# Altium footprint library WR-TBL_Rising Cage Clamp_10.16mm.PcbLib: 81 footprints (part 5 of 6)
Each footprint in its own frame and in the unit in brackets; x right, y up, seen from the top. Pads: shape width x height; smd on the part's side, far side on the other; paste and mask are expansions set on the pad; w line width, h text height; cw(c..) or ccw(c..) is an arc to the next point about the centre after c.
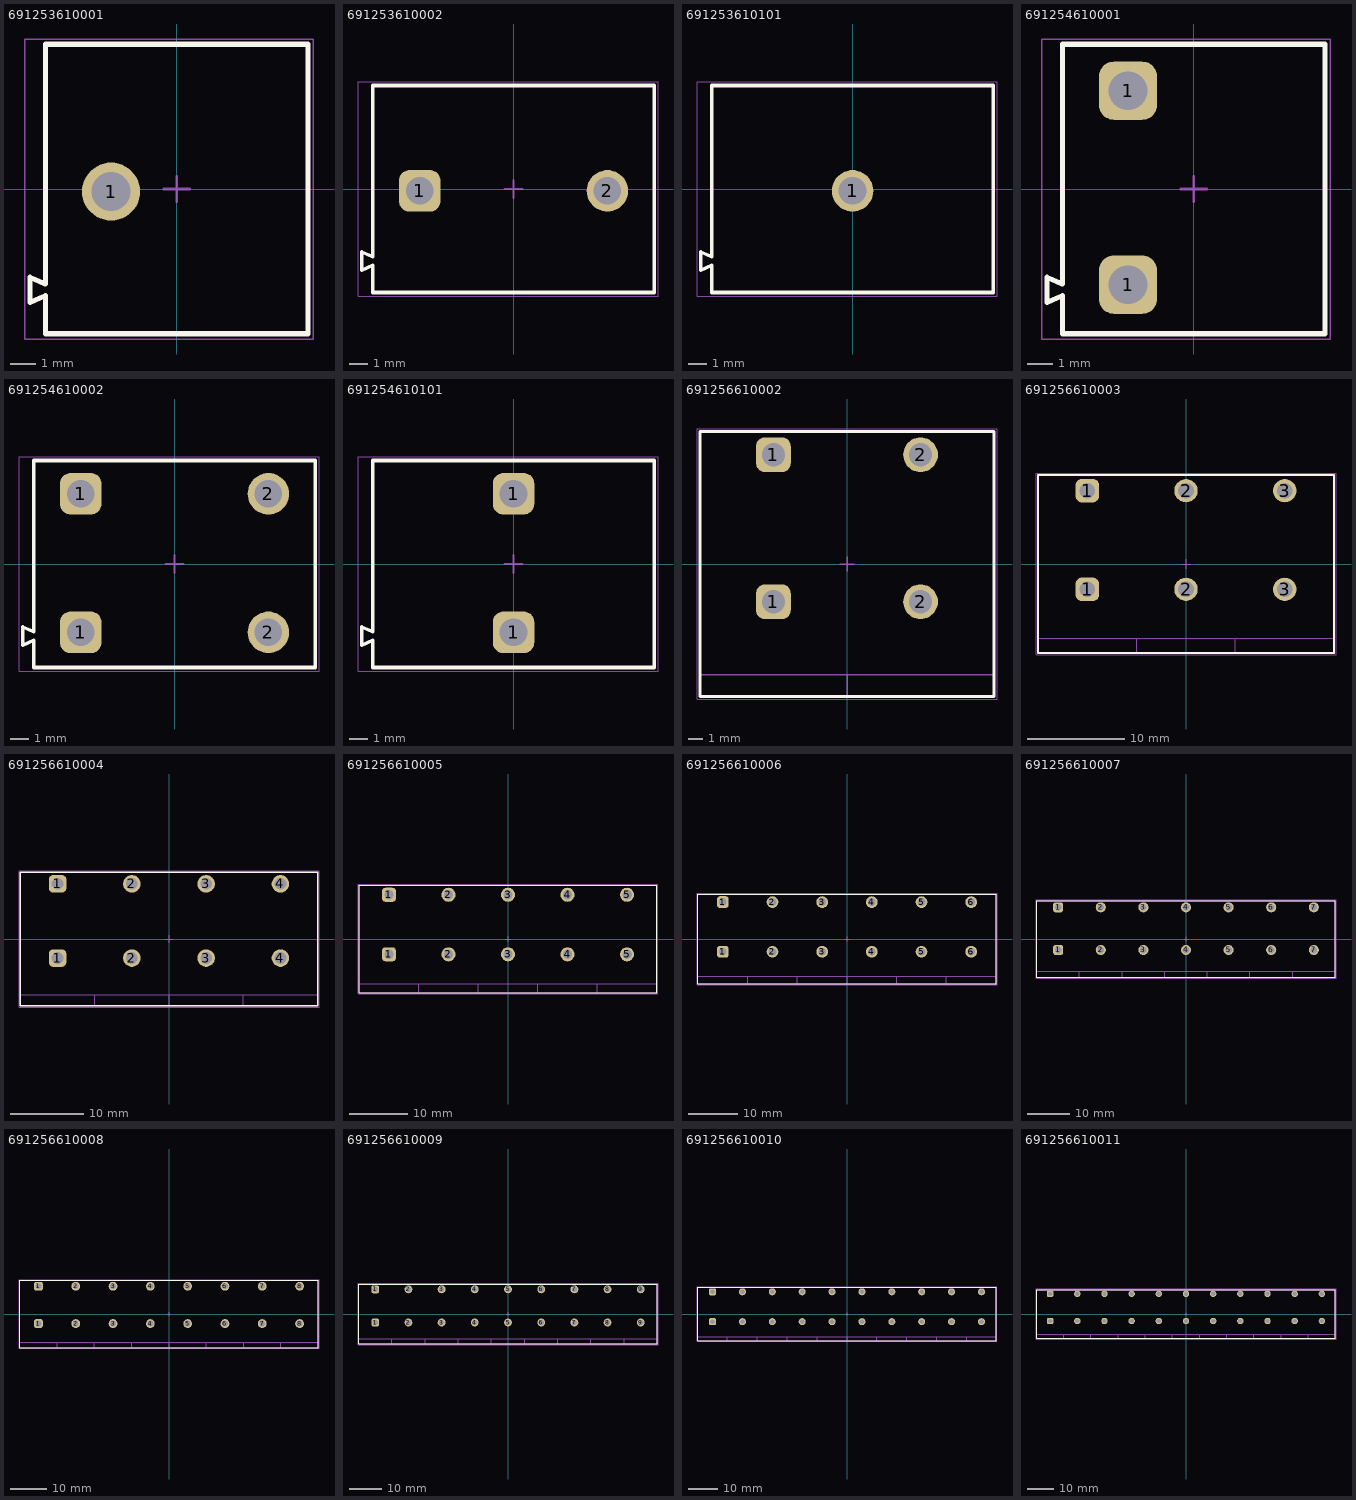
[diagram p4: the footprints below, top view; thin cyan lines are the x and y axes]

## 691253610001 [mm] "Serie 2536 - 10.16 mm _ 1 pins"
height 18
pads (1):
  round 2.25 hole 1.5: 1(-2.54,-0.1)
Top Overlay:
  lines w0.2: -5.079,-4.131 -5.68,-4.39 -5.68,-3.41 -5.079,-3.669 -5.079,5.599 5.08,5.6 5.08,-5.6 -5.08,-5.6 -5.08,-4.13
Top Assembly:
  lines w0.1: -5.079,-4.131 -5.68,-4.39 -5.68,-3.41 -5.079,-3.669 -5.079,5.599 5.08,5.6 5.08,-5.6 -5.08,-5.6 -5.08,-4.13
Top Designator:
  text ".Designator" at -3.647,-0.357 h1
Top 3D Body:
  lines w0.1: -5.079,-4.131 -5.68,-4.39 -5.68,-3.41 -5.079,-3.669 -5.079,5.599 5.08,5.6 5.08,-5.6 -5.08,-5.6 -5.08,-4.13
Top Courtyard:
  lines w0.05: -5.88,-5.8 -5.88,5.8 5.28,5.8 5.28,-5.8 -5.88,-5.8
Top Component Center:
  lines w0.1: -0.5,0 0.5,0 ; 0,-0.5 0,0.5
3D body "691253610001.stp": height 18.1, standoff -3.9, extent -5.66,-5.6 5.1,5.6

## 691253610002 [mm] "Serie 2536 - 10.16 mm _ 2 pins"
height 18
pads (2):
  rrect50% 2.25x2.25 hole 1.5: 1(-5.08,-0.1)
  round 2.25 hole 1.5: 2(5.08,-0.1)
Top Overlay:
  lines w0.2: -7.619,-4.131 -8.22,-4.39 -8.22,-3.41 -7.619,-3.669 -7.619,5.599 7.62,5.6 7.62,-5.6 -7.62,-5.6 -7.62,-4.13
Top Assembly:
  lines w0.1: -7.619,-4.131 -8.22,-4.39 -8.22,-3.41 -7.619,-3.669 -7.619,5.599 7.62,5.6 7.62,-5.6 -7.62,-5.6 -7.62,-4.13
Top Designator:
  text ".Designator" at -3.647,-0.357 h1
Top 3D Body:
  lines w0.1: -7.619,-4.131 -8.22,-4.39 -8.22,-3.41 -7.619,-3.669 -7.619,5.599 7.62,5.6 7.62,-5.6 -7.62,-5.6 -7.62,-4.13
Top Courtyard:
  lines w0.05: -8.42,-5.8 -8.42,5.8 7.82,5.8 7.82,-5.8 -8.42,-5.8
Top Component Center:
  lines w0.1: -0.5,0 0.5,0 ; 0,-0.5 0,0.5
3D body "691253610002.stp": height 18.1, standoff -3.9, extent -8.2,-5.6 7.64,5.6

## 691253610101 [mm] "Serie 2536 - 10.16 mm _ 1 pin"
height 18
pads (1):
  round 2.25 hole 1.5: 1(0,-0.1)
Top Overlay:
  lines w0.2: -7.619,-4.131 -8.22,-4.39 -8.22,-3.41 -7.619,-3.669 -7.619,5.599 7.62,5.6 7.62,-5.6 -7.62,-5.6 -7.62,-4.13
Top Assembly:
  lines w0.1: -7.619,-4.131 -8.22,-4.39 -8.22,-3.41 -7.619,-3.669 -7.619,5.599 7.62,5.6 7.62,-5.6 -7.62,-5.6 -7.62,-4.13
Top Designator:
  text ".Designator" at -3.647,-0.357 h1
Top 3D Body:
  lines w0.1: -7.619,-4.131 -8.22,-4.39 -8.22,-3.41 -7.619,-3.669 -7.619,5.599 7.62,5.6 7.62,-5.6 -7.62,-5.6 -7.62,-4.13
Top Courtyard:
  lines w0.05: -8.42,-5.8 7.82,-5.8 7.82,5.8 -8.42,5.8 -8.42,-5.8
Top Component Center:
  lines w0.1: -0.5,0 0.5,0 ; 0,-0.5 0,0.5
3D body "691253610101.stp": height 18.1, standoff -3.9, extent -8.22,-5.6 7.62,5.6

## 691254610001 [mm] "Serie 2546-10.16mm Horizontal Cable Entry with Rising Cage Clamp, 1 pin"
height 18
pads (2):
  rrect50% 2.25x2.25 hole 1.5: 1(-2.54,-3.7) 1(-2.54,3.8)
Top Overlay:
  lines w0.2: -5.081,-4.127 -5.68,-4.39 -5.68,-3.41 -5.081,-3.673 -5.081,5.599 ; -5.08,-4.13 -5.08,-5.6 5.08,-5.6 5.08,5.6 -5.08,5.6
Top Assembly:
  lines w0.1: -5.081,-4.127 -5.68,-4.39 -5.68,-3.41 -5.081,-3.673 -5.081,5.599 ; -5.08,-4.13 -5.08,-5.6 5.08,-5.6 5.08,5.6 -5.08,5.6
Top Designator:
  text ".Designator" at -3.647,-0.357 h1
Top 3D Body:
  lines w0.1: -5.081,-4.127 -5.68,-4.39 -5.68,-3.41 -5.081,-3.673 -5.081,5.599 ; -5.08,-4.13 -5.08,-5.6 5.08,-5.6 5.08,5.6 -5.08,5.6
Top Courtyard:
  lines w0.05: -5.88,-5.8 -5.88,5.8 5.28,5.8 5.28,-5.8 -5.88,-5.8
Top Component Center:
  lines w0.1: -0.5,0 0.5,0 ; 0,-0.5 0,0.5
3D body "691254610001.stp": height 18.1, standoff -3.4, extent -5.68,-5.6 5.08,5.6

## 691254610002 [mm] "Serie 2546-10.16mm Horizontal Cable Entry with Rising Cage Clamp, 2 pins"
height 18
pads (4):
  rrect50% 2.25x2.25 hole 1.5: 1(-5.08,-3.7) 1(-5.08,3.8)
  round 2.25 hole 1.5: 2(5.08,-3.7) 2(5.08,3.8)
Top Overlay:
  lines w0.2: -7.621,-4.127 -8.22,-4.39 -8.22,-3.41 -7.621,-3.673 -7.621,5.599 ; -7.62,-4.13 -7.62,-5.6 7.62,-5.6 7.62,5.6 -7.62,5.6
Top Assembly:
  lines w0.1: -7.621,-4.127 -8.22,-4.39 -8.22,-3.41 -7.621,-3.673 -7.621,5.599 ; -7.62,-4.13 -7.62,-5.6 7.62,-5.6 7.62,5.6 -7.62,5.6
Top Designator:
  text ".Designator" at -3.647,-0.357 h1
Top 3D Body:
  lines w0.1: -7.621,-4.127 -8.22,-4.39 -8.22,-3.41 -7.621,-3.673 -7.621,5.599 ; -7.62,-4.13 -7.62,-5.6 7.62,-5.6 7.62,5.6 -7.62,5.6
Top Courtyard:
  lines w0.05: -8.42,-5.8 7.82,-5.8 7.82,5.8 -8.42,5.8 -8.42,-5.8
Top Component Center:
  lines w0.1: -0.5,0 0.5,0 ; 0,-0.5 0,0.5
3D body "691254610002.stp": height 18.1, standoff -3.4, extent -8.22,-5.6 7.62,5.6

## 691254610101 [mm] "Serie 2546-10.16mm Horizontal Cable Entry with Rising Cage Clamp, 1 pin"
height 18
pads (2):
  rrect50% 2.25x2.25 hole 1.5: 1(0,-3.7) 1(0,3.8)
Top Overlay:
  lines w0.2: -7.621,-4.127 -8.22,-4.39 -8.22,-3.41 -7.621,-3.673 -7.621,5.599 ; -7.62,-4.13 -7.62,-5.6 7.62,-5.6 7.62,5.6 -7.62,5.6
Top Assembly:
  lines w0.1: -7.621,-4.127 -8.22,-4.39 -8.22,-3.41 -7.621,-3.673 -7.621,5.599 ; -7.62,-4.13 -7.62,-5.6 7.62,-5.6 7.62,5.6 -7.62,5.6
Top Designator:
  text ".Designator" at -3.647,-0.357 h1
Top 3D Body:
  lines w0.1: -7.621,-4.127 -8.22,-4.39 -8.22,-3.41 -7.621,-3.673 -7.621,5.599 ; -7.62,-4.13 -7.62,-5.6 7.62,-5.6 7.62,5.6 -7.62,5.6
Top Courtyard:
  lines w0.05: -8.42,-5.8 -8.42,5.8 7.82,5.8 7.82,-5.8 -8.42,-5.8
Top Component Center:
  lines w0.1: -0.5,0 0.5,0 ; 0,-0.5 0,0.5
3D body "691254610101.stp": height 18.1, standoff -3.4, extent -8.22,-5.6 7.62,5.6

## 691256610002 [mm] "10.16mm Horizontal Cable Entry with Rising Cage Clamp, 02p"
height 29.3
pads (4):
  rrect50% 2.4x2.4 hole 1.6: 1(-5.08,-2.61) 1(-5.08,7.55)
  round 2.4 hole 1.6: 2(5.08,-2.61) 2(5.08,7.55)
Top Overlay:
  lines w0.2: -10.16,-9.15 -10.16,9.15 10.16,9.15 10.16,-9.15 -10.16,-9.15
Top Assembly:
  lines w0.1: -10.16,-7.65 10.16,-7.65 ; 0,-9.15 0,-7.65 ; -10.16,-9.15 10.16,-9.15 10.16,9.15 -10.16,9.15 -10.16,-9.15
Top Designator:
  text ".Designator" at -3.647,-0.357 h1
Top 3D Body:
  lines w0.1: -10.16,-7.65 10.16,-7.65 ; 0,-9.15 0,-7.65 ; -10.16,-9.15 -10.16,9.15 10.16,9.15 10.16,-9.15 -10.16,-9.15
Top Courtyard:
  lines w0.05: -10.36,-9.35 -10.36,9.35 10.36,9.35 10.36,-9.35 -10.36,-9.35
Top Component Center:
  lines w0.1: -0.5,0 0.5,0 ; 0,-0.5 0,0.5
3D body "691256610002.stp": height 29.33, standoff -4.97, extent -10.16,-9.15 10.16,9.15

## 691256610003 [mm] "10.16mm Horizontal Cable Entry with Rising Cage Clamp, 03p"
height 29.3
pads (6):
  rrect50% 2.4x2.4 hole 1.6: 1(-10.16,-2.61) 1(-10.16,7.55)
  round 2.4 hole 1.6: 2(0,-2.61) 2(0,7.55) 3(10.16,-2.61) 3(10.16,7.55)
Top Overlay:
  lines w0.2: -15.24,-9.15 -15.24,9.15 15.24,9.15 15.24,-9.15 -15.24,-9.15
Top Assembly:
  lines w0.1: -15.24,-7.65 15.24,-7.65 ; -5.08,-9.15 -5.08,-7.65 ; 5.08,-9.15 5.08,-7.65 ; -15.24,-9.15 15.24,-9.15 15.24,9.15 -15.24,9.15 -15.24,-9.15
Top Designator:
  text ".Designator" at -3.647,-0.357 h1
Top 3D Body:
  lines w0.1: -15.24,-7.65 15.24,-7.65 ; -5.08,-9.15 -5.08,-7.65 ; 5.08,-9.15 5.08,-7.65 ; -15.24,-9.15 -15.24,9.15 15.24,9.15 15.24,-9.15 -15.24,-9.15
Top Courtyard:
  lines w0.05: -15.44,-9.35 -15.44,9.35 15.44,9.35 15.44,-9.35 -15.44,-9.35
Top Component Center:
  lines w0.1: -0.5,0 0.5,0 ; 0,-0.5 0,0.5
3D body "691256610003.stp": height 29.33, standoff -4.97, extent -15.24,-9.15 15.24,9.15

## 691256610004 [mm] "10.16mm Horizontal Cable Entry with Rising Cage Clamp, 04p"
height 29.3
pads (8):
  rrect50% 2.4x2.4 hole 1.6: 1(-15.24,-2.61) 1(-15.24,7.55)
  round 2.4 hole 1.6: 2(-5.08,-2.61) 2(-5.08,7.55) 3(5.08,-2.61) 3(5.08,7.55) 4(15.24,-2.61) 4(15.24,7.55)
Top Overlay:
  lines w0.2: -20.32,-9.15 20.32,-9.15 20.32,9.15 -20.32,9.15 -20.32,-9.15
Top Assembly:
  lines w0.1: -20.32,-7.65 20.32,-7.65 ; -10.16,-9.15 -10.16,-7.65 ; 0,-9.15 0,-7.65 ; 10.16,-9.15 10.16,-7.65 ; -20.32,-9.15 -20.32,9.15 20.32,9.15 20.32,-9.15 -20.32,-9.15
Top Designator:
  text ".Designator" at -3.647,-0.357 h1
Top 3D Body:
  lines w0.1: -20.32,-7.65 20.32,-7.65 ; -10.16,-9.15 -10.16,-7.65 ; 0,-9.15 0,-7.65 ; 10.16,-9.15 10.16,-7.65 ; -20.32,-9.15 20.32,-9.15 20.32,9.15 -20.32,9.15 -20.32,-9.15
Top Courtyard:
  lines w0.05: -20.52,-9.35 20.52,-9.35 20.52,9.35 -20.52,9.35 -20.52,-9.35
Top Component Center:
  lines w0.1: -0.5,0 0.5,0 ; 0,-0.5 0,0.5
3D body "691256610004.stp": height 29.33, standoff -4.97, extent -20.32,-9.15 20.32,9.15

## 691256610005 [mm] "10.16mm Horizontal Cable Entry with Rising Cage Clamp, 05p"
height 29.3
pads (10):
  rrect50% 2.4x2.4 hole 1.6: 1(-20.32,-2.61) 1(-20.32,7.55)
  round 2.4 hole 1.6: 2(-10.16,-2.61) 2(-10.16,7.55) 3(0,-2.61) 3(0,7.55) 4(10.16,-2.61) 4(10.16,7.55) 5(20.32,-2.61) 5(20.32,7.55)
Top Overlay:
  lines w0.2: -25.4,-9.15 25.4,-9.15 25.4,9.15 -25.4,9.15 -25.4,-9.15
Top Assembly:
  lines w0.1: -25.4,-7.65 25.4,-7.65 ; -15.24,-9.15 -15.24,-7.65 ; -5.08,-9.15 -5.08,-7.65 ; 5.08,-9.15 5.08,-7.65 ; 15.24,-9.15 15.24,-7.65 ; -25.4,-9.15 -25.4,9.15 25.4,9.15 25.4,-9.15 -25.4,-9.15
Top Designator:
  text ".Designator" at -3.647,-0.357 h1
Top 3D Body:
  lines w0.1: -25.4,-7.65 25.4,-7.65 ; -15.24,-9.15 -15.24,-7.65 ; -5.08,-9.15 -5.08,-7.65 ; 5.08,-9.15 5.08,-7.65 ; 15.24,-9.15 15.24,-7.65 ; -25.4,-9.15 25.4,-9.15 25.4,9.15 -25.4,9.15 -25.4,-9.15
Top Courtyard:
  lines w0.05: -25.6,-9.35 25.6,-9.35 25.6,9.35 -25.6,9.35 -25.6,-9.35
Top Component Center:
  lines w0.1: -0.5,0 0.5,0 ; 0,-0.5 0,0.5
3D body "691256610005.stp": height 29.33, standoff -4.97, extent -25.4,-9.15 25.4,9.15

## 691256610006 [mm] "10.16mm Horizontal Cable Entry with Rising Cage Clamp, 06p"
height 29.3
pads (12):
  rrect50% 2.4x2.4 hole 1.6: 1(-25.4,-2.61) 1(-25.4,7.55)
  round 2.4 hole 1.6: 2(-15.24,-2.61) 2(-15.24,7.55) 3(-5.08,-2.61) 3(-5.08,7.55) 4(5.08,-2.61) 4(5.08,7.55) 5(15.24,-2.61) 5(15.24,7.55) 6(25.4,-2.61) 6(25.4,7.55)
Top Overlay:
  lines w0.2: -30.48,-9.15 -30.48,9.15 30.48,9.15 30.48,-9.15 -30.48,-9.15
Top Assembly:
  lines w0.1: -30.48,-7.65 30.48,-7.65 ; -20.32,-9.15 -20.32,-7.65 ; -10.16,-9.15 -10.16,-7.65 ; 0,-9.15 0,-7.65 ; 10.16,-9.15 10.16,-7.65 ; 20.32,-9.15 20.32,-7.65 ; -30.48,-9.15 30.48,-9.15 30.48,9.15 -30.48,9.15 -30.48,-9.15
Top Designator:
  text ".Designator" at -3.647,-0.357 h1
Top 3D Body:
  lines w0.1: -30.48,-7.65 30.48,-7.65 ; -20.32,-9.15 -20.32,-7.65 ; -10.16,-9.15 -10.16,-7.65 ; 0,-9.15 0,-7.65 ; 10.16,-9.15 10.16,-7.65 ; 20.32,-9.15 20.32,-7.65 ; -30.48,-9.15 -30.48,9.15 30.48,9.15 30.48,-9.15 -30.48,-9.15
Top Courtyard:
  lines w0.05: -30.68,-9.35 -30.68,9.35 30.68,9.35 30.68,-9.35 -30.68,-9.35
Top Component Center:
  lines w0.1: -0.5,0 0.5,0 ; 0,-0.5 0,0.5
3D body "691256610006.stp": height 29.33, standoff -4.97, extent -30.48,-9.15 30.48,9.15

## 691256610007 [mm] "10.16mm Horizontal Cable Entry with Rising Cage Clamp, 07p"
height 29.3
pads (14):
  rrect50% 2.4x2.4 hole 1.6: 1(-30.48,-2.61) 1(-30.48,7.55)
  round 2.4 hole 1.6: 2(-20.32,-2.61) 2(-20.32,7.55) 3(-10.16,-2.61) 3(-10.16,7.55) 4(0,-2.61) 4(0,7.55) 5(10.16,-2.61) 5(10.16,7.55) 6(20.32,-2.61) 6(20.32,7.55) 7(30.48,-2.61) 7(30.48,7.55)
Top Overlay:
  lines w0.2: -35.56,-9.15 35.56,-9.15 35.56,9.15 -35.56,9.15 -35.56,-9.15
Top Assembly:
  lines w0.1: -35.56,-7.65 35.56,-7.65 ; -25.4,-9.15 -25.4,-7.65 ; -15.24,-9.15 -15.24,-7.65 ; -5.08,-9.15 -5.08,-7.65 ; 5.08,-9.15 5.08,-7.65 ; 15.24,-9.15 15.24,-7.65 ; 25.4,-9.15 25.4,-7.65 ; -35.56,-9.15 -35.56,9.15 35.56,9.15 35.56,-9.15 -35.56,-9.15
Top Designator:
  text ".Designator" at -3.647,-0.357 h1
Top 3D Body:
  lines w0.1: -35.56,-7.65 35.56,-7.65 ; -25.4,-9.15 -25.4,-7.65 ; -15.24,-9.15 -15.24,-7.65 ; -5.08,-9.15 -5.08,-7.65 ; 5.08,-9.15 5.08,-7.65 ; 15.24,-9.15 15.24,-7.65 ; 25.4,-9.15 25.4,-7.65 ; -35.56,-9.15 35.56,-9.15 35.56,9.15 -35.56,9.15 -35.56,-9.15
Top Courtyard:
  lines w0.05: -35.76,-9.35 35.76,-9.35 35.76,9.35 -35.76,9.35 -35.76,-9.35
Top Component Center:
  lines w0.1: -0.5,0 0.5,0 ; 0,-0.5 0,0.5
3D body "691256610007.stp": height 29.33, standoff -4.97, extent -35.56,-9.15 35.56,9.15

## 691256610008 [mm] "10.16mm Horizontal Cable Entry with Rising Cage Clamp, 08p"
height 29.3
pads (16):
  rrect50% 2.4x2.4 hole 1.6: 1(-35.56,-2.61) 1(-35.56,7.55)
  round 2.4 hole 1.6: 2(-25.4,-2.61) 2(-25.4,7.55) 3(-15.24,-2.61) 3(-15.24,7.55) 4(-5.08,-2.61) 4(-5.08,7.55) 5(5.08,-2.61) 5(5.08,7.55) 6(15.24,-2.61) 6(15.24,7.55) 7(25.4,-2.61) 7(25.4,7.55) 8(35.56,-2.61) 8(35.56,7.55)
Top Overlay:
  lines w0.2: -40.64,-9.15 40.64,-9.15 40.64,9.15 -40.64,9.15 -40.64,-9.15
Top Assembly:
  lines w0.1: -40.64,-7.65 40.64,-7.65 ; -30.48,-9.15 -30.48,-7.65 ; -20.32,-9.15 -20.32,-7.65 ; -10.16,-9.15 -10.16,-7.65 ; 0,-9.15 0,-7.65 ; 10.16,-9.15 10.16,-7.65 ; 20.32,-9.15 20.32,-7.65 ; 30.48,-9.15 30.48,-7.65 ; -40.64,-9.15 -40.64,9.15 40.64,9.15 40.64,-9.15 -40.64,-9.15
Top Designator:
  text ".Designator" at -3.647,-0.357 h1
Top 3D Body:
  lines w0.1: -40.64,-7.65 40.64,-7.65 ; -30.48,-9.15 -30.48,-7.65 ; -20.32,-9.15 -20.32,-7.65 ; -10.16,-9.15 -10.16,-7.65 ; 0,-9.15 0,-7.65 ; 10.16,-9.15 10.16,-7.65 ; 20.32,-9.15 20.32,-7.65 ; 30.48,-9.15 30.48,-7.65 ; -40.64,-9.15 40.64,-9.15 40.64,9.15 -40.64,9.15 -40.64,-9.15
Top Courtyard:
  lines w0.05: -40.84,-9.35 40.84,-9.35 40.84,9.35 -40.84,9.35 -40.84,-9.35
Top Component Center:
  lines w0.1: -0.5,0 0.5,0 ; 0,-0.5 0,0.5
3D body "691256610008.stp": height 29.33, standoff -4.97, extent -40.64,-9.15 40.64,9.15

## 691256610009 [mm] "10.16mm Horizontal Cable Entry with Rising Cage Clamp, 09p"
height 29.3
pads (18):
  rrect50% 2.4x2.4 hole 1.6: 1(-40.64,-2.61) 1(-40.64,7.55)
  round 2.4 hole 1.6: 2(-30.48,-2.61) 2(-30.48,7.55) 3(-20.32,-2.61) 3(-20.32,7.55) 4(-10.16,-2.61) 4(-10.16,7.55) 5(0,-2.61) 5(0,7.55) 6(10.16,-2.61) 6(10.16,7.55) 7(20.32,-2.61) 7(20.32,7.55) 8(30.48,-2.61) 8(30.48,7.55) 9(40.64,-2.61) 9(40.64,7.55)
Top Overlay:
  lines w0.2: -45.72,-9.15 -45.72,9.15 45.72,9.15 45.72,-9.15 -45.72,-9.15
Top Assembly:
  lines w0.1: -45.72,-7.65 45.72,-7.65 ; -35.56,-9.15 -35.56,-7.65 ; -25.4,-9.15 -25.4,-7.65 ; -15.24,-9.15 -15.24,-7.65 ; -5.08,-9.15 -5.08,-7.65 ; 5.08,-9.15 5.08,-7.65 ; 15.24,-9.15 15.24,-7.65 ; 25.4,-9.15 25.4,-7.65 ; 35.56,-9.15 35.56,-7.65 ; -45.72,-9.15 45.72,-9.15 45.72,9.15 -45.72,9.15 -45.72,-9.15
Top Designator:
  text ".Designator" at -3.647,-0.357 h1
Top 3D Body:
  lines w0.1: -45.72,-7.65 45.72,-7.65 ; -35.56,-9.15 -35.56,-7.65 ; -25.4,-9.15 -25.4,-7.65 ; -15.24,-9.15 -15.24,-7.65 ; -5.08,-9.15 -5.08,-7.65 ; 5.08,-9.15 5.08,-7.65 ; 15.24,-9.15 15.24,-7.65 ; 25.4,-9.15 25.4,-7.65 ; 35.56,-9.15 35.56,-7.65 ; -45.72,-9.15 -45.72,9.15 45.72,9.15 45.72,-9.15 -45.72,-9.15
Top Courtyard:
  lines w0.05: -45.92,-9.35 -45.92,9.35 45.92,9.35 45.92,-9.35 -45.92,-9.35
Top Component Center:
  lines w0.1: -0.5,0 0.5,0 ; 0,-0.5 0,0.5
3D body "691256610009.stp": height 29.33, standoff -4.97, extent -45.72,-9.15 45.72,9.15

## 691256610010 [mm] "10.16mm Horizontal Cable Entry with Rising Cage Clamp, 10p"
height 29.3
pads (20):
  rrect50% 2.4x2.4 hole 1.6: 1(-45.72,-2.61) 1(-45.72,7.55)
  round 2.4 hole 1.6: 2(-35.56,-2.61) 2(-35.56,7.55) 3(-25.4,-2.61) 3(-25.4,7.55) 4(-15.24,-2.61) 4(-15.24,7.55) 5(-5.08,-2.61) 5(-5.08,7.55) 6(5.08,-2.61) 6(5.08,7.55) 7(15.24,-2.61) 7(15.24,7.55) 8(25.4,-2.61) 8(25.4,7.55) 9(35.56,-2.61) 9(35.56,7.55) 10(45.72,-2.61) 10(45.72,7.55)
Top Overlay:
  lines w0.2: -50.8,-9.15 50.8,-9.15 50.8,9.15 -50.8,9.15 -50.8,-9.15
Top Assembly:
  lines w0.1: -50.8,-7.65 50.8,-7.65 ; -40.64,-9.15 -40.64,-7.65 ; -30.48,-9.15 -30.48,-7.65 ; -20.32,-9.15 -20.32,-7.65 ; -10.16,-9.15 -10.16,-7.65 ; 0,-9.15 0,-7.65 ; 10.16,-9.15 10.16,-7.65 ; 20.32,-9.15 20.32,-7.65 ; 30.48,-9.15 30.48,-7.65 ; 40.64,-9.15 40.64,-7.65 ; -50.8,-9.15 -50.8,9.15 50.8,9.15 50.8,-9.15 -50.8,-9.15
Top Designator:
  text ".Designator" at -3.647,-0.357 h1
Top 3D Body:
  lines w0.1: -50.8,-7.65 50.8,-7.65 ; -40.64,-9.15 -40.64,-7.65 ; -30.48,-9.15 -30.48,-7.65 ; -20.32,-9.15 -20.32,-7.65 ; -10.16,-9.15 -10.16,-7.65 ; 0,-9.15 0,-7.65 ; 10.16,-9.15 10.16,-7.65 ; 20.32,-9.15 20.32,-7.65 ; 30.48,-9.15 30.48,-7.65 ; 40.64,-9.15 40.64,-7.65 ; -50.8,-9.15 50.8,-9.15 50.8,9.15 -50.8,9.15 -50.8,-9.15
Top Courtyard:
  lines w0.05: -51,-9.35 51,-9.35 51,9.35 -51,9.35 -51,-9.35
Top Component Center:
  lines w0.1: -0.5,0 0.5,0 ; 0,-0.5 0,0.5
3D body "691256610010.stp": height 29.33, standoff -4.97, extent -50.8,-9.15 50.8,9.15

## 691256610011 [mm] "10.16mm Horizontal Cable Entry with Rising Cage Clamp, 11p"
height 29.3
pads (22):
  rrect50% 2.4x2.4 hole 1.6: 1(-50.8,-2.61) 1(-50.8,7.55)
  round 2.4 hole 1.6: 2(-40.64,-2.61) 2(-40.64,7.55) 3(-30.48,-2.61) 3(-30.48,7.55) 4(-20.32,-2.61) 4(-20.32,7.55) 5(-10.16,-2.61) 5(-10.16,7.55) 6(0,-2.61) 6(0,7.55) 7(10.16,-2.61) 7(10.16,7.55) 8(20.32,-2.61) 8(20.32,7.55) 9(30.48,-2.61) 9(30.48,7.55) 10(40.64,-2.61) 10(40.64,7.55) 11(50.8,-2.61) 11(50.8,7.55)
Top Overlay:
  lines w0.2: -55.88,-9.15 -55.88,9.15 55.88,9.15 55.88,-9.15 -55.88,-9.15
Top Assembly:
  lines w0.1: -55.88,-7.65 55.88,-7.65 ; -45.72,-9.15 -45.72,-7.65 ; -35.56,-9.15 -35.56,-7.65 ; -25.4,-9.15 -25.4,-7.65 ; -15.24,-9.15 -15.24,-7.65 ; -5.08,-9.15 -5.08,-7.65 ; 5.08,-9.15 5.08,-7.65 ; 15.24,-9.15 15.24,-7.65 ; 25.4,-9.15 25.4,-7.65 ; 35.56,-9.15 35.56,-7.65 ; 45.72,-9.15 45.72,-7.65 ; -55.88,-9.15 55.88,-9.15 55.88,9.15 -55.88,9.15 -55.88,-9.15
Top Designator:
  text ".Designator" at -3.647,-0.357 h1
Top 3D Body:
  lines w0.1: -55.88,-7.65 55.88,-7.65 ; -45.72,-9.15 -45.72,-7.65 ; -35.56,-9.15 -35.56,-7.65 ; -25.4,-9.15 -25.4,-7.65 ; -15.24,-9.15 -15.24,-7.65 ; -5.08,-9.15 -5.08,-7.65 ; 5.08,-9.15 5.08,-7.65 ; 15.24,-9.15 15.24,-7.65 ; 25.4,-9.15 25.4,-7.65 ; 35.56,-9.15 35.56,-7.65 ; 45.72,-9.15 45.72,-7.65 ; -55.88,-9.15 -55.88,9.15 55.88,9.15 55.88,-9.15 -55.88,-9.15
Top Courtyard:
  lines w0.05: -56.08,-9.35 -56.08,9.35 56.08,9.35 56.08,-9.35 -56.08,-9.35
Top Component Center:
  lines w0.1: -0.5,0 0.5,0 ; 0,-0.5 0,0.5
3D body "691256610011.stp": height 29.33, standoff -4.97, extent -55.88,-9.15 55.88,9.15